# EAGLE library part MCP4725* (library bschulz)
MCP4725 - 12 Bit Digital to Analog Converter Characteristics: VCC: 2.7~5.5V Operating Temperature: -40°C to 125°C Number of Outputs: 1 Settling Time: 6μs Number of Bits: 12 Digikey: MCP4725A0T-E/CHCT-ND <https://www.digikey.com/product-detail/en/microchip-technology/MCP4725A0T-E-CH/MCP4725A0T-E-CHCT-ND/1817328> MCP4725A1T-E/CHCT-ND <https://www.digikey.com/product-detail/en/microchip-technology/MCP4725A1T-E-CH/MCP4725A1T-E-CHCT-ND/1999839> MCP4725A3T-E/CHCT-ND <https://www.digikey.com/product-detail/en/microchip-technology/MCP4725A3T-E-CH/MCP4725A3T-E-CHCT-ND/1999841>
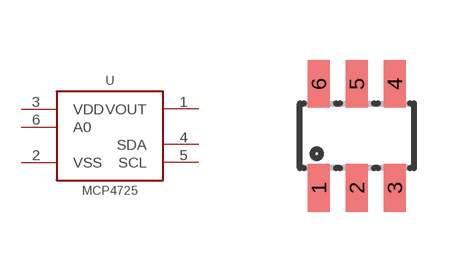
[diagram p47: symbol with the pads of SOT23-6L; footprint SOT23-6L]

Designator prefix U

## MCP4725 (MF: Microchip), MCP4725A0 (DIGIKEY: MCP4725A0T-E/CHCT-ND; MF: Microchip; MPN: MCP4725A0T-E/CH), MCP4725A1 (DIGIKEY: MCP4725A1T-E/CHCT-ND; MF: Microchip; MPN: MCP4725A1T-E/CH), MCP4725A3 (DIGIKEY: MCP4725A3T-E/CHCT-ND; MF: Microchip; MPN: MCP4725A3T-E/CH)  [SOT23-6L]
1  VOUT  out
2  VSS  pwr
3  VDD  pwr
4  SDA
5  SCL
6  A0  in

## Footprint SOT23-6L (pad centres in mm)
Small Outline Transistor
smd 0.55 x 1.2: 1 -0.95,-1.3; 2 0,-1.3; 3 0.95,-1.3; 4 0.95,1.3; 5 0,1.3; 6 -0.95,1.3